# Altium schematic symbol library Schlib1.SchLib: 1 symbol
Pins are listed as number, name and electrical type; pins without a type are passive.

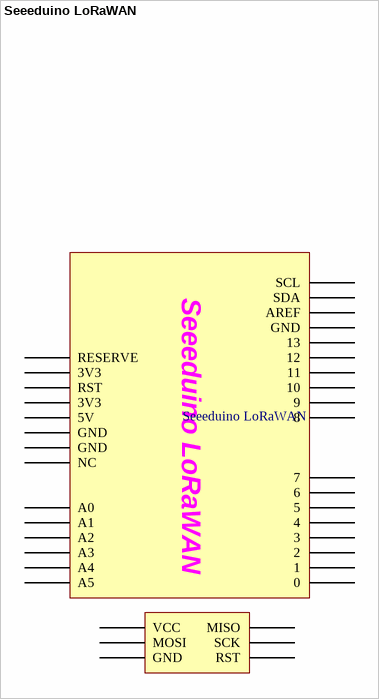
[diagram p0: symbol Seeeduino LoRaWAN]

## Seeeduino LoRaWAN
designator Seeeduino LoRaWAN  (value not drawn)
footprint Seeeduino LoRaWAN
pins: 0, 1, 2, 3, 3V3, 3V3, 4, 5, 5V, 6, 7 11, 7, 8, 9, 10, 12, 13, A0, A1, A2, A3, A4, A5, AREF, GND, GND, GND, GND, MISO, MOSI, NC, RESERVE, RST, RST, SCK, SCL, SDA, VCC